# Altium footprint library J 接插件.PcbLib: 458 footprints (part 5 of 29)
Each footprint in its own frame and in the unit in brackets; x right, y up, seen from the top. Pads: shape width x height; smd on the part's side, far side on the other; paste and mask are expansions set on the pad; w line width, h text height; cw(c..) or ccw(c..) is an arc to the next point about the centre after c.
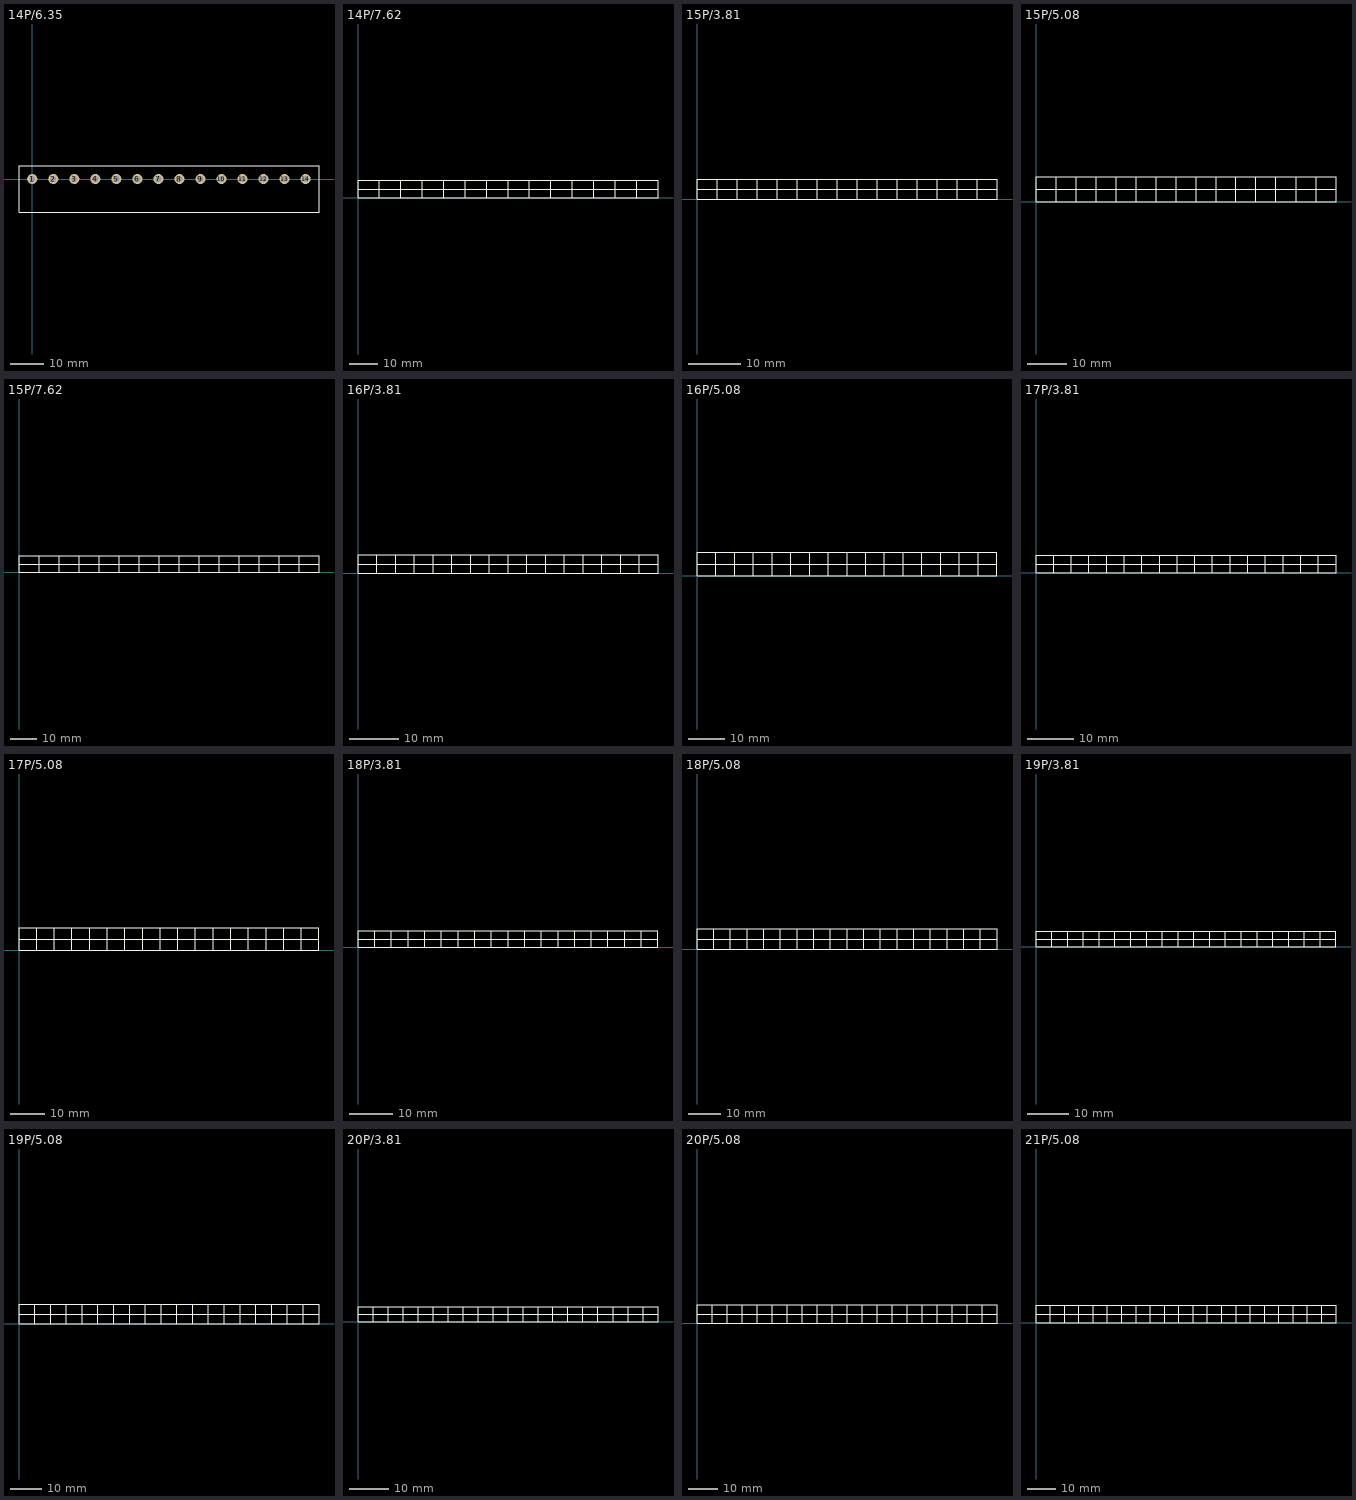
[diagram p4: the footprints below, top view; thin cyan lines are the x and y axes]

## 14P/6.35 [mil] "间距6.35"
height 500
pads (14):
  round 120 hole 70: 1(0,0) 2(250,0) 3(500,0) 4(750,0) 5(1000,0) 6(1250,0) 7(1500,0) 8(1750,0) 9(2000,0) 10(2250,0) 11(2500,0) 12(2750,0) 13(3000,0) 14(3250,0)
Top Overlay:
  lines w10: -157.48,-393.7 -157.48,157.48 3409.45,157.48 3409.45,-393.7 -157.48,-393.7

## 14P/7.62 [mil] "ͷ"
height 748.03
Top Overlay:
  lines w5: 0,125 4200,125 ; 300,0 300,250 ; 600,0 600,250 ; 900,0 900,250 ; 1200,0 1200,250 ; 1500,0 1500,250 ; 1800,0 1800,250 ; 2100,0 2100,250 ; 2400,0 2400,250 ; 2700,0 2700,250 ; 3000,0 3000,250 ; 3300,0 3300,250 ; 3600,0 3600,250 ; 3900,0 3900,250 ; 0,0 4200,0 4200,250 0,250 0,0

## 15P/3.81 [mil] "ͷ"
height 905.51
Top Overlay:
  lines w5: 0,75 2250,75 ; 150,0 150,150 ; 300,0 300,150 ; 450,0 450,150 ; 600,0 600,150 ; 750,0 750,150 ; 900,0 900,150 ; 1050,0 1050,150 ; 1200,0 1200,150 ; 1350,0 1350,150 ; 1500,0 1500,150 ; 1650,0 1650,150 ; 1800,0 1800,150 ; 1950,0 1950,150 ; 2100,0 2100,150 ; 0,0 2250,0 2250,150 0,150 0,0

## 15P/5.08 [mil] "ͷ"
height 393.7
Top Overlay:
  lines w5: 0,125 3000,125 ; 200,0 200,250 ; 400,0 400,250 ; 600,0 600,250 ; 800,0 800,250 ; 1000,0 1000,250 ; 1200,0 1200,250 ; 1400,0 1400,250 ; 1600,0 1600,250 ; 1800,0 1800,250 ; 2000,0 2000,250 ; 2200,0 2200,250 ; 2400,0 2400,250 ; 2600,0 2600,250 ; 2800,0 2800,250 ; 0,0 3000,0 3000,250 0,250 0,0

## 15P/7.62 [mil] "ͷ"
height 748.03
Top Overlay:
  lines w5: 0,125 4500,125 ; 300,0 300,250 ; 600,0 600,250 ; 900,0 900,250 ; 1200,0 1200,250 ; 1500,0 1500,250 ; 1800,0 1800,250 ; 2100,0 2100,250 ; 2400,0 2400,250 ; 2700,0 2700,250 ; 3000,0 3000,250 ; 3300,0 3300,250 ; 3600,0 3600,250 ; 3900,0 3900,250 ; 4200,0 4200,250 ; 0,0 0,250 4500,250 4500,0 0,0

## 16P/3.81 [mil] "ͷ"
height 905.51
Top Overlay:
  lines w5: 0,75 2400,75 ; 150,0 150,150 ; 300,0 300,150 ; 450,0 450,150 ; 600,0 600,150 ; 750,0 750,150 ; 900,0 900,150 ; 1050,0 1050,150 ; 1200,0 1200,150 ; 1350,0 1350,150 ; 1500,0 1500,150 ; 1650,0 1650,150 ; 1800,0 1800,150 ; 1950,0 1950,150 ; 2100,0 2100,150 ; 2250,0 2250,150 ; 0,0 0,150 2400,150 2400,0 0,0

## 16P/5.08 [mil] "ͷ"
height 393.7
Top Overlay:
  lines w5: 0,125 3200,125 ; 200,0 200,250 ; 400,0 400,250 ; 600,0 600,250 ; 800,0 800,250 ; 1000,0 1000,250 ; 1200,0 1200,250 ; 1400,0 1400,250 ; 1600,0 1600,250 ; 1800,0 1800,250 ; 2000,0 2000,250 ; 2200,0 2200,250 ; 2400,0 2400,250 ; 2600,0 2600,250 ; 2800,0 2800,250 ; 3000,0 3000,250 ; 0,0 0,250 3200,250 3200,0 0,0

## 17P/3.81 [mil] "ͷ"
height 905.51
Top Overlay:
  lines w5: 0,75 2550,75 ; 150,0 150,150 ; 300,0 300,150 ; 450,0 450,150 ; 600,0 600,150 ; 750,0 750,150 ; 900,0 900,150 ; 1050,0 1050,150 ; 1200,0 1200,150 ; 1350,0 1350,150 ; 1500,0 1500,150 ; 1650,0 1650,150 ; 1800,0 1800,150 ; 1950,0 1950,150 ; 2100,0 2100,150 ; 2250,0 2250,150 ; 2400,0 2400,150 ; 0,0 0,150 2550,150 2550,0 0,0

## 17P/5.08 [mil] "ͷ"
height 393.7
Top Overlay:
  lines w5: 0,125 3400,125 ; 200,0 200,250 ; 400,0 400,250 ; 600,0 600,250 ; 800,0 800,250 ; 1000,0 1000,250 ; 1200,0 1200,250 ; 1400,0 1400,250 ; 1600,0 1600,250 ; 1800,0 1800,250 ; 2000,0 2000,250 ; 2200,0 2200,250 ; 2400,0 2400,250 ; 2600,0 2600,250 ; 2800,0 2800,250 ; 3000,0 3000,250 ; 3200,0 3200,250 ; 0,0 0,250 3400,250 3400,0 0,0

## 18P/3.81 [mil] "ͷ"
height 905.51
Top Overlay:
  lines w5: 0,75 2700,75 ; 150,0 150,150 ; 300,0 300,150 ; 450,0 450,150 ; 600,0 600,150 ; 750,0 750,150 ; 900,0 900,150 ; 1050,0 1050,150 ; 1200,0 1200,150 ; 1350,0 1350,150 ; 1500,0 1500,150 ; 1650,0 1650,150 ; 1800,0 1800,150 ; 1950,0 1950,150 ; 2100,0 2100,150 ; 2250,0 2250,150 ; 2400,0 2400,150 ; 2550,0 2550,150 ; 0,0 2700,0 2700,150 0,150 0,0

## 18P/5.08 [mil] "ͷ"
height 393.7
Top Overlay:
  lines w5: 0,125 3600,125 ; 200,0 200,250 ; 400,0 400,250 ; 600,0 600,250 ; 800,0 800,250 ; 1000,0 1000,250 ; 1200,0 1200,250 ; 1400,0 1400,250 ; 1600,0 1600,250 ; 1800,0 1800,250 ; 2000,0 2000,250 ; 2200,0 2200,250 ; 2400,0 2400,250 ; 2600,0 2600,250 ; 2800,0 2800,250 ; 3000,0 3000,250 ; 3200,0 3200,250 ; 3400,0 3400,250 ; 0,0 3600,0 3600,250 0,250 0,0

## 19P/3.81 [mil] "ͷ"
height 905.51
Top Overlay:
  lines w5: 0,75 2850,75 ; 150,0 150,150 ; 300,0 300,150 ; 450,0 450,150 ; 600,0 600,150 ; 750,0 750,150 ; 900,0 900,150 ; 1050,0 1050,150 ; 1200,0 1200,150 ; 1350,0 1350,150 ; 1500,0 1500,150 ; 1650,0 1650,150 ; 1800,0 1800,150 ; 1950,0 1950,150 ; 2100,0 2100,150 ; 2250,0 2250,150 ; 2400,0 2400,150 ; 2550,0 2550,150 ; 2700,0 2700,150 ; 0,0 0,150 2850,150 2850,0 0,0

## 19P/5.08 [mil] "ͷ"
height 393.7
Top Overlay:
  lines w5: 0,125 3800,125 ; 200,0 200,250 ; 400,0 400,250 ; 600,0 600,250 ; 800,0 800,250 ; 1000,0 1000,250 ; 1200,0 1200,250 ; 1400,0 1400,250 ; 1600,0 1600,250 ; 1800,0 1800,250 ; 2000,0 2000,250 ; 2200,0 2200,250 ; 2400,0 2400,250 ; 2600,0 2600,250 ; 2800,0 2800,250 ; 3000,0 3000,250 ; 3200,0 3200,250 ; 3400,0 3400,250 ; 3600,0 3600,250 ; 0,0 3800,0 3800,250 0,250 0,0

## 20P/3.81 [mil] "ͷ"
height 905.51
Top Overlay:
  lines w5: 0,75 3000,75 ; 150,0 150,150 ; 300,0 300,150 ; 450,0 450,150 ; 600,0 600,150 ; 750,0 750,150 ; 900,0 900,150 ; 1050,0 1050,150 ; 1200,0 1200,150 ; 1350,0 1350,150 ; 1500,0 1500,150 ; 1650,0 1650,150 ; 1800,0 1800,150 ; 1950,0 1950,150 ; 2100,0 2100,150 ; 2250,0 2250,150 ; 2400,0 2400,150 ; 2550,0 2550,150 ; 2700,0 2700,150 ; 2850,0 2850,150 ; 0,0 0,150 3000,150 3000,0 0,0

## 20P/5.08 [mil] "ͷ"
height 393.7
Top Overlay:
  lines w5: 0,125 4000,125 ; 200,0 200,250 ; 400,0 400,250 ; 600,0 600,250 ; 800,0 800,250 ; 1000,0 1000,250 ; 1200,0 1200,250 ; 1400,0 1400,250 ; 1600,0 1600,250 ; 1800,0 1800,250 ; 2000,0 2000,250 ; 2200,0 2200,250 ; 2400,0 2400,250 ; 2600,0 2600,250 ; 2800,0 2800,250 ; 3000,0 3000,250 ; 3200,0 3200,250 ; 3400,0 3400,250 ; 3600,0 3600,250 ; 3800,0 3800,250 ; 0,0 4000,0 4000,250 0,250 0,0

## 21P/5.08 [mil] "ͷ"
height 393.7
Top Overlay:
  lines w5: 0,125 4200,125 ; 200,0 200,250 ; 400,0 400,250 ; 600,0 600,250 ; 800,0 800,250 ; 1000,0 1000,250 ; 1200,0 1200,250 ; 1400,0 1400,250 ; 1600,0 1600,250 ; 1800,0 1800,250 ; 2000,0 2000,250 ; 2200,0 2200,250 ; 2400,0 2400,250 ; 2600,0 2600,250 ; 2800,0 2800,250 ; 3000,0 3000,250 ; 3200,0 3200,250 ; 3400,0 3400,250 ; 3600,0 3600,250 ; 3800,0 3800,250 ; 4000,0 4000,250 ; 0,0 4200,0 4200,250 0,250 0,0